# Altium schematic symbol library LC Circuit.SchLib: 12 symbols
Pins are listed as number, name and electrical type; pins without a type are passive.

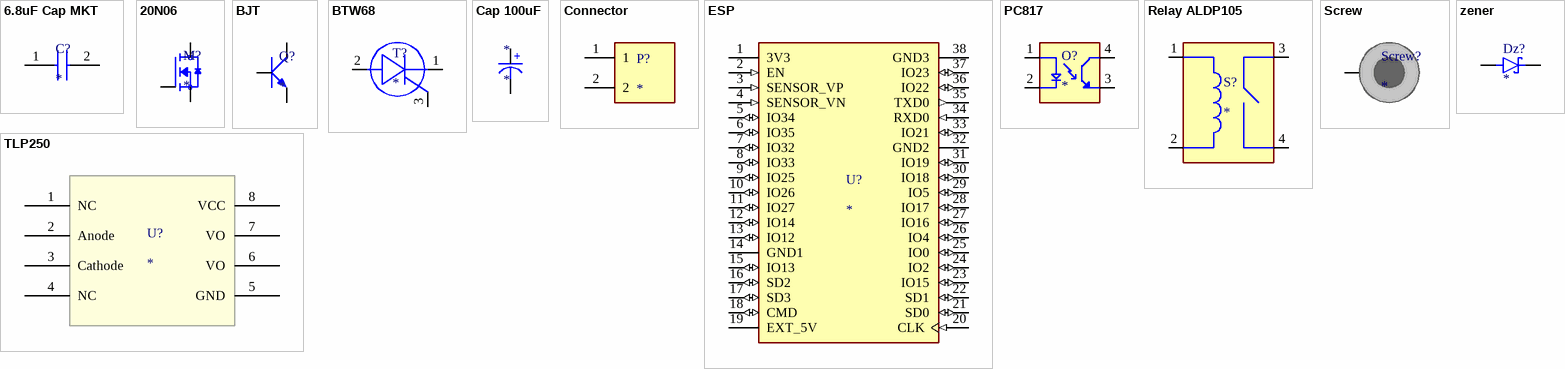
[diagram p0: symbols 6.8uF Cap MKT to zener]

## 6.8uF Cap MKT
designator C?
footprint 63V MKT
pins: 1, 2

## 20N06
designator M?
footprint 20N06
pins: 1 G, 2 S, 3 D

## BJT
designator Q?
pins: 1 E, 2 B, 3 C

## BTW68
designator T?
footprint BTW68
pins: 1 K, 2 A, 3 G

## Cap 100uF
designator *
footprint Cap 100uF
pins: 1 +, 2 -

## Connector
designator P?
footprint Connector
pins: 1, 2

## ESP
designator U?
footprint ESP
pins: 1 3V3 (power), 2 EN (in), 3 SENSOR_VP (in), 4 SENSOR_VN (in), 5 IO34 (io), 6 IO35 (io), 7 IO32 (io), 8 IO33 (io), 9 IO25 (io), 10 IO26 (io), 11 IO27 (io), 12 IO14 (io), 13 IO12 (io), 14 GND1 (power), 15 IO13 (io), 16 SD2 (io), 17 SD3 (io), 18 CMD (io), 19 EXT_5V (power), 20 CLK (in), 21 SD0 (io), 22 SD1 (io), 23 IO15 (io), 24 IO2 (io), 25 IO0 (io), 26 IO4 (io), 27 IO16 (io), 28 IO17 (io), 29 IO5 (io), 30 IO18 (io), 31 IO19 (io), 32 GND2 (power), 33 IO21 (io), 34 RXD0 (in), 35 TXD0 (out), 36 IO22 (io), 37 IO23 (io), 38 GND3 (power)

## PC817
designator O?
footprint PC817
pins: 1 A, 2 C, 3 ET, 4 CT

## Relay ALDP105
designator S?
footprint Relay ALDP105
pins: 1 COIL_1, 2 COIL_2, 3 COM, 4 NO

## Screw
designator Screw?
footprint Screw
pins: 1

## TLP250
designator U?
footprint TLP250
pins: 1 NC, 2 Anode, 3 Cathode, 4 NC, 5 GND, 6 VO, 7 VO, 8 VCC

## zener
designator Dz?
footprint zener
pins: 1 K, 2 A